# Altium schematic symbol library kmilo17pet-TI_BattMgmt.SchLib: 950 symbols (part 20 of 60)
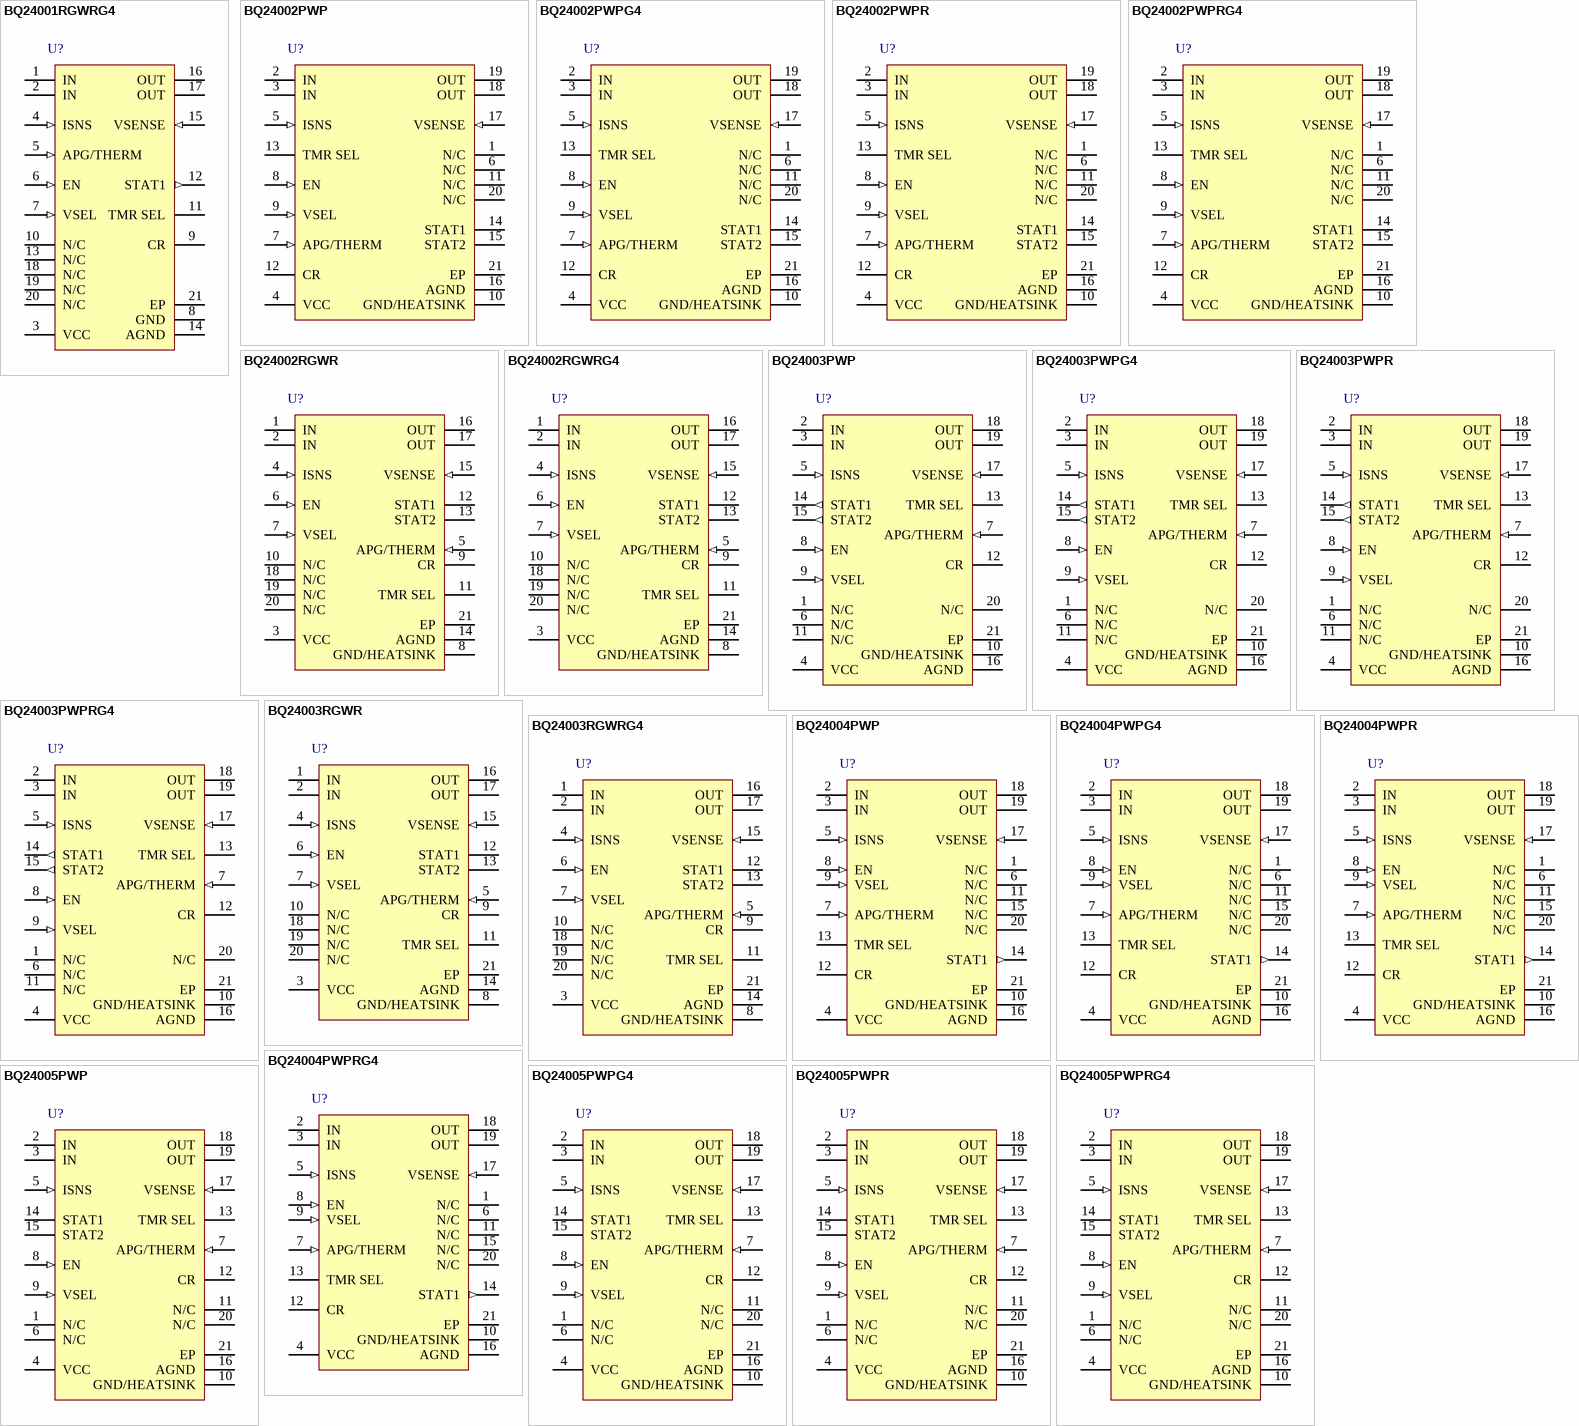
[diagram p53: symbols BQ24001RGWRG4 to BQ24005PWPRG4]

## BQ24004PWPR
designator U?
Linear 2-Cell Li-Ion Battery Charger with Integrated FET, One LED, 4.5 V, 0 to 70 degC, 20-pin HTSSOP (PWP), Green (RoHS & no Sb/Br); PartNumber: BQ24004PWPR; Manufacturer: Texas Instruments; Lead Acid: N; Li-Ion: Y; SubFamily: Battery Charge Management; Vin(Min)(V): 4.5; DatasheetVersion: SLUS476F; PackageVersion: revI, May-2011; PackageReference: PWP20-3005X2005TP; PackageDescription: 20-Pin PowerPAD Plastic Small Outline 6.5 x 4.4 mm Body ,0.65 mm Pitch, Exposed Pad; Supplier 1: Digi-Key; Supplier Part Number 1: BQ24004PWPR-ND; Supplier Part Number 3: 595-BQ24004PWPR; Eco-Plan: Green (RoHS & no Sb/Br); Li-Polymer: Y; NiCd: N; NiMH: N; Over Voltage Protection: N; Mounting Technology: Surface Mount; Code_JEDEC: MO-153; ComponentLink1Description: Datasheet; ComponentLink1URL: http://www.ti.com/general/docs/lit/getliterature.tsp?genericPartNumber=BQ24004&fileType=pdf
footprint PWP20-3005X2005TP_N (TSOP, 20-Leads, Body 6.5x4.4mm, Pitch 0.65mm, Thermal Pad 3.7x2.4 mm, IPC Medium Density)
footprint PWP20-3005X2005TP_L (TSOP, 20-Leads, Body 6.5x4.4mm, Pitch 0.65mm, Thermal Pad 3.7x2.4 mm, IPC High Density)
footprint PWP20-3005X2005TP_M (TSOP, 20-Leads, Body 6.5x4.4mm, Pitch 0.65mm, Thermal Pad 3.7x2.4 mm, IPC Low Density)
pins: 1 N/C "No connect. These pins must be left floating", 2 IN (power) "Input voltage. This input provides the charging voltage for the battery.", 3 IN (power) "Input voltage. This input provides the charging voltage for the battery.", 4 VCC (power) "Supply voltage", 5 ISNS (in) "Current sense input", 6 N/C "No connect. These pins must be left floating", 7 APG/THERM (in) "Adapter power good input/thermistor sense input", 8 EN (in) "Charge-enable input. Active-high enable input with internal pull down. Low-current stand-by mode active when EN is low.", 9 VSEL (in) "8.2-V or 8.4-V charge regulation selection input", 10 GND/HEATSINK (power) "Ground pin; connect to PowerPAD heat-sink layout pattern.", 11 N/C "No connect. These pins must be left floating", 12 CR "Internal regulator bypass capacitor", 13 TMR SEL "Charge timer selection input", 14 STAT1 (out) "Status display output 1", 15 N/C "No connect. These pins must be left floating", 16 AGND (power) "Ground pin; connect close to the negative battery terminal.", 17 VSENSE (in) "Battery voltage sense input", 18 OUT (power) "Charge current output", 19 OUT (power) "Charge current output", 20 N/C "No connect. These pins must be left floating", 21 EP (power) "Exposed Thermal Pad"

## BQ24004PWPRG4
designator U?
Linear 2-Cell Li-Ion Battery Charger with Integrated FET, One LED, 4.5 V, 0 to 70 degC, 20-pin HTSSOP (PWP), Green (RoHS & no Sb/Br); PartNumber: BQ24004PWPRG4; Manufacturer: Texas Instruments; Lead Acid: N; Li-Ion: Y; SubFamily: Battery Charge Management; Vin(Min)(V): 4.5; DatasheetVersion: SLUS476F; PackageVersion: revI, May-2011; PackageReference: PWP20-3005X2005TP; PackageDescription: 20-Pin PowerPAD Plastic Small Outline 6.5 x 4.4 mm Body ,0.65 mm Pitch, Exposed Pad; Supplier 1: Digi-Key; Supplier Part Number 1: BQ24004PWPRG4-ND; Supplier Part Number 3: 595-BQ24004PWPRG4; Eco-Plan: Green (RoHS & no Sb/Br); Li-Polymer: Y; NiCd: N; NiMH: N; Over Voltage Protection: N; Mounting Technology: Surface Mount; Code_JEDEC: MO-153; ComponentLink1Description: Datasheet; ComponentLink1URL: http://www.ti.com/general/docs/lit/getliterature.tsp?genericPartNumber=BQ24004&fileType=pdf
footprint PWP20-3005X2005TP_N (TSOP, 20-Leads, Body 6.5x4.4mm, Pitch 0.65mm, Thermal Pad 3.7x2.4 mm, IPC Medium Density)
footprint PWP20-3005X2005TP_L (TSOP, 20-Leads, Body 6.5x4.4mm, Pitch 0.65mm, Thermal Pad 3.7x2.4 mm, IPC High Density)
footprint PWP20-3005X2005TP_M (TSOP, 20-Leads, Body 6.5x4.4mm, Pitch 0.65mm, Thermal Pad 3.7x2.4 mm, IPC Low Density)
pins: 1 N/C "No connect. These pins must be left floating", 2 IN (power) "Input voltage. This input provides the charging voltage for the battery.", 3 IN (power) "Input voltage. This input provides the charging voltage for the battery.", 4 VCC (power) "Supply voltage", 5 ISNS (in) "Current sense input", 6 N/C "No connect. These pins must be left floating", 7 APG/THERM (in) "Adapter power good input/thermistor sense input", 8 EN (in) "Charge-enable input. Active-high enable input with internal pull down. Low-current stand-by mode active when EN is low.", 9 VSEL (in) "8.2-V or 8.4-V charge regulation selection input", 10 GND/HEATSINK (power) "Ground pin; connect to PowerPAD heat-sink layout pattern.", 11 N/C "No connect. These pins must be left floating", 12 CR "Internal regulator bypass capacitor", 13 TMR SEL "Charge timer selection input", 14 STAT1 (out) "Status display output 1", 15 N/C "No connect. These pins must be left floating", 16 AGND (power) "Ground pin; connect close to the negative battery terminal.", 17 VSENSE (in) "Battery voltage sense input", 18 OUT (power) "Charge current output", 19 OUT (power) "Charge current output", 20 N/C "No connect. These pins must be left floating", 21 EP (power) "Exposed Thermal Pad"

## BQ24005PWP
designator U?
Linear 2-Cell Li-Ion Battery Charger with Integrated FET, Two LED, 4.5 V, -20 to 70 degC, 20-pin HTSSOP (PWP), Green (RoHS & no Sb/Br); PartNumber: BQ24005PWP; Manufacturer: Texas Instruments; Lead Acid: N; Li-Ion: Y; SubFamily: Battery Charge Management; Vin(Min)(V): 4.5; DatasheetVersion: SLUS476F; PackageVersion: revI, May-2011; PackageReference: PWP20-3005X2005TP; PackageDescription: 20-Pin PowerPAD Plastic Small Outline 6.5 x 4.4 mm Body ,0.65 mm Pitch, Exposed Pad; Supplier 1: Digi-Key; Supplier Part Number 1: 296-9382-5-ND; Supplier Part Number 3: 74C7641; Eco-Plan: Green (RoHS & no Sb/Br); Li-Polymer: Y; NiCd: N; NiMH: N; Over Voltage Protection: N; Mounting Technology: Surface Mount; Code_JEDEC: MO-153; ComponentLink1Description: Datasheet; ComponentLink1URL: http://www.ti.com/general/docs/lit/getliterature.tsp?genericPartNumber=BQ24005&fileType=pdf
footprint PWP20-3005X2005TP_N (TSOP, 20-Leads, Body 6.5x4.4mm, Pitch 0.65mm, Thermal Pad 3.7x2.4 mm, IPC Medium Density)
footprint PWP20-3005X2005TP_L (TSOP, 20-Leads, Body 6.5x4.4mm, Pitch 0.65mm, Thermal Pad 3.7x2.4 mm, IPC High Density)
footprint PWP20-3005X2005TP_M (TSOP, 20-Leads, Body 6.5x4.4mm, Pitch 0.65mm, Thermal Pad 3.7x2.4 mm, IPC Low Density)
pins: 1 N/C "No connect. These pins must be left floating. Pin 15 is N/C on bq24004PWP only.", 2 IN (power) "Input voltage. This input provides the charging voltage for the battery.", 3 IN (power) "Input voltage. This input provides the charging voltage for the battery.", 4 VCC (power) "Supply voltage", 5 ISNS (in) "Current sense input", 6 N/C "No connect. These pins must be left floating. Pin 15 is N/C on bq24004PWP only.", 7 APG/THERM (in) "Adapter power good input/thermistor sense input", 8 EN (in) "Charge-enable input. Active-high enable input with internal pull down. Low-current stand-by mode active when EN is low.", 9 VSEL (in) "8.2-V or 8.4-V charge regulation selection input", 10 GND/HEATSINK (power) "Ground pin; connect to PowerPAD heat-sink layout pattern.", 11 N/C "No connect. These pins must be left floating. Pin 15 is N/C on bq24004PWP only.", 12 CR "Internal regulator bypass capacitor", 13 TMR SEL "Charge timer selection input", 14 STAT1 (oc) "Status display output 1", 15 STAT2 (oc) "Status display output 2", 16 AGND (power) "Ground pin; connect close to the negative battery terminal.", 17 VSENSE (in) "Battery voltage sense input", 18 OUT (power) "Charge current output", 19 OUT (power) "Charge current output", 20 N/C "No connect. These pins must be left floating. Pin 15 is N/C on bq24004PWP only.", 21 EP (power) "Exposed Thermal Pad"

## BQ24005PWPG4
designator U?
Linear 2-Cell Li-Ion Battery Charger with Integrated FET, Two LED, 4.5 V, -20 to 70 degC, 20-pin HTSSOP (PWP), Green (RoHS & no Sb/Br); PartNumber: BQ24005PWPG4; Manufacturer: Texas Instruments; Lead Acid: N; Li-Ion: Y; SubFamily: Battery Charge Management; Vin(Min)(V): 4.5; DatasheetVersion: SLUS476F; PackageVersion: revI, May-2011; PackageReference: PWP20-3005X2005TP; PackageDescription: 20-Pin PowerPAD Plastic Small Outline 6.5 x 4.4 mm Body ,0.65 mm Pitch, Exposed Pad; Supplier 1: Digi-Key; Supplier Part Number 1: BQ24005PWPG4-ND; Supplier Part Number 3: 595-BQ24005PWPG4; Eco-Plan: Green (RoHS & no Sb/Br); Li-Polymer: Y; NiCd: N; NiMH: N; Over Voltage Protection: N; Mounting Technology: Surface Mount; Code_JEDEC: MO-153; ComponentLink1Description: Datasheet; ComponentLink1URL: http://www.ti.com/general/docs/lit/getliterature.tsp?genericPartNumber=BQ24005&fileType=pdf
footprint PWP20-3005X2005TP_N (TSOP, 20-Leads, Body 6.5x4.4mm, Pitch 0.65mm, Thermal Pad 3.7x2.4 mm, IPC Medium Density)
footprint PWP20-3005X2005TP_L (TSOP, 20-Leads, Body 6.5x4.4mm, Pitch 0.65mm, Thermal Pad 3.7x2.4 mm, IPC High Density)
footprint PWP20-3005X2005TP_M (TSOP, 20-Leads, Body 6.5x4.4mm, Pitch 0.65mm, Thermal Pad 3.7x2.4 mm, IPC Low Density)
pins: 1 N/C "No connect. These pins must be left floating. Pin 15 is N/C on bq24004PWP only.", 2 IN (power) "Input voltage. This input provides the charging voltage for the battery.", 3 IN (power) "Input voltage. This input provides the charging voltage for the battery.", 4 VCC (power) "Supply voltage", 5 ISNS (in) "Current sense input", 6 N/C "No connect. These pins must be left floating. Pin 15 is N/C on bq24004PWP only.", 7 APG/THERM (in) "Adapter power good input/thermistor sense input", 8 EN (in) "Charge-enable input. Active-high enable input with internal pull down. Low-current stand-by mode active when EN is low.", 9 VSEL (in) "8.2-V or 8.4-V charge regulation selection input", 10 GND/HEATSINK (power) "Ground pin; connect to PowerPAD heat-sink layout pattern.", 11 N/C "No connect. These pins must be left floating. Pin 15 is N/C on bq24004PWP only.", 12 CR "Internal regulator bypass capacitor", 13 TMR SEL "Charge timer selection input", 14 STAT1 (oc) "Status display output 1", 15 STAT2 (oc) "Status display output 2", 16 AGND (power) "Ground pin; connect close to the negative battery terminal.", 17 VSENSE (in) "Battery voltage sense input", 18 OUT (power) "Charge current output", 19 OUT (power) "Charge current output", 20 N/C "No connect. These pins must be left floating. Pin 15 is N/C on bq24004PWP only.", 21 EP (power) "Exposed Thermal Pad"

## BQ24005PWPR
designator U?
Linear 2-Cell Li-Ion Battery Charger with Integrated FET, Two LED, 4.5 V, -20 to 70 degC, 20-pin HTSSOP (PWP), Green (RoHS & no Sb/Br); PartNumber: BQ24005PWPR; Manufacturer: Texas Instruments; Lead Acid: N; Li-Ion: Y; SubFamily: Battery Charge Management; Vin(Min)(V): 4.5; DatasheetVersion: SLUS476F; PackageVersion: revI, May-2011; PackageReference: PWP20-3005X2005TP; PackageDescription: 20-Pin PowerPAD Plastic Small Outline 6.5 x 4.4 mm Body ,0.65 mm Pitch, Exposed Pad; Supplier 1: Digi-Key; Supplier Part Number 1: 296-25921-2-ND; Supplier Part Number 3: 296-25921-6-ND; Eco-Plan: Green (RoHS & no Sb/Br); Li-Polymer: Y; NiCd: N; NiMH: N; Over Voltage Protection: N; Mounting Technology: Surface Mount; Code_JEDEC: MO-153; ComponentLink1Description: Datasheet; ComponentLink1URL: http://www.ti.com/general/docs/lit/getliterature.tsp?genericPartNumber=BQ24005&fileType=pdf
footprint PWP20-3005X2005TP_N (TSOP, 20-Leads, Body 6.5x4.4mm, Pitch 0.65mm, Thermal Pad 3.7x2.4 mm, IPC Medium Density)
footprint PWP20-3005X2005TP_L (TSOP, 20-Leads, Body 6.5x4.4mm, Pitch 0.65mm, Thermal Pad 3.7x2.4 mm, IPC High Density)
footprint PWP20-3005X2005TP_M (TSOP, 20-Leads, Body 6.5x4.4mm, Pitch 0.65mm, Thermal Pad 3.7x2.4 mm, IPC Low Density)
pins: 1 N/C "No connect. These pins must be left floating. Pin 15 is N/C on bq24004PWP only.", 2 IN (power) "Input voltage. This input provides the charging voltage for the battery.", 3 IN (power) "Input voltage. This input provides the charging voltage for the battery.", 4 VCC (power) "Supply voltage", 5 ISNS (in) "Current sense input", 6 N/C "No connect. These pins must be left floating. Pin 15 is N/C on bq24004PWP only.", 7 APG/THERM (in) "Adapter power good input/thermistor sense input", 8 EN (in) "Charge-enable input. Active-high enable input with internal pull down. Low-current stand-by mode active when EN is low.", 9 VSEL (in) "8.2-V or 8.4-V charge regulation selection input", 10 GND/HEATSINK (power) "Ground pin; connect to PowerPAD heat-sink layout pattern.", 11 N/C "No connect. These pins must be left floating. Pin 15 is N/C on bq24004PWP only.", 12 CR "Internal regulator bypass capacitor", 13 TMR SEL "Charge timer selection input", 14 STAT1 (oc) "Status display output 1", 15 STAT2 (oc) "Status display output 2", 16 AGND (power) "Ground pin; connect close to the negative battery terminal.", 17 VSENSE (in) "Battery voltage sense input", 18 OUT (power) "Charge current output", 19 OUT (power) "Charge current output", 20 N/C "No connect. These pins must be left floating. Pin 15 is N/C on bq24004PWP only.", 21 EP (power) "Exposed Thermal Pad"

## BQ24005PWPRG4
designator U?
Linear 2-Cell Li-Ion Battery Charger with Integrated FET, Two LED, 4.5 V, -20 to 70 degC, 20-pin HTSSOP (PWP), Green (RoHS & no Sb/Br); PartNumber: BQ24005PWPRG4; Manufacturer: Texas Instruments; Lead Acid: N; Li-Ion: Y; SubFamily: Battery Charge Management; Vin(Min)(V): 4.5; DatasheetVersion: SLUS476F; PackageVersion: revI, May-2011; PackageReference: PWP20-3005X2005TP; PackageDescription: 20-Pin PowerPAD Plastic Small Outline 6.5 x 4.4 mm Body ,0.65 mm Pitch, Exposed Pad; Supplier 1: Digi-Key; Supplier Part Number 1: BQ24005PWPRG4-ND; Supplier Part Number 3: 595-BQ24005PWPRG4; Eco-Plan: Green (RoHS & no Sb/Br); Li-Polymer: Y; NiCd: N; NiMH: N; Over Voltage Protection: N; Mounting Technology: Surface Mount; Code_JEDEC: MO-153; ComponentLink1Description: Datasheet; ComponentLink1URL: http://www.ti.com/general/docs/lit/getliterature.tsp?genericPartNumber=BQ24005&fileType=pdf
footprint PWP20-3005X2005TP_N (TSOP, 20-Leads, Body 6.5x4.4mm, Pitch 0.65mm, Thermal Pad 3.7x2.4 mm, IPC Medium Density)
footprint PWP20-3005X2005TP_L (TSOP, 20-Leads, Body 6.5x4.4mm, Pitch 0.65mm, Thermal Pad 3.7x2.4 mm, IPC High Density)
footprint PWP20-3005X2005TP_M (TSOP, 20-Leads, Body 6.5x4.4mm, Pitch 0.65mm, Thermal Pad 3.7x2.4 mm, IPC Low Density)
pins: 1 N/C "No connect. These pins must be left floating. Pin 15 is N/C on bq24004PWP only.", 2 IN (power) "Input voltage. This input provides the charging voltage for the battery.", 3 IN (power) "Input voltage. This input provides the charging voltage for the battery.", 4 VCC (power) "Supply voltage", 5 ISNS (in) "Current sense input", 6 N/C "No connect. These pins must be left floating. Pin 15 is N/C on bq24004PWP only.", 7 APG/THERM (in) "Adapter power good input/thermistor sense input", 8 EN (in) "Charge-enable input. Active-high enable input with internal pull down. Low-current stand-by mode active when EN is low.", 9 VSEL (in) "8.2-V or 8.4-V charge regulation selection input", 10 GND/HEATSINK (power) "Ground pin; connect to PowerPAD heat-sink layout pattern.", 11 N/C "No connect. These pins must be left floating. Pin 15 is N/C on bq24004PWP only.", 12 CR "Internal regulator bypass capacitor", 13 TMR SEL "Charge timer selection input", 14 STAT1 (oc) "Status display output 1", 15 STAT2 (oc) "Status display output 2", 16 AGND (power) "Ground pin; connect close to the negative battery terminal.", 17 VSENSE (in) "Battery voltage sense input", 18 OUT (power) "Charge current output", 19 OUT (power) "Charge current output", 20 N/C "No connect. These pins must be left floating. Pin 15 is N/C on bq24004PWP only.", 21 EP (power) "Exposed Thermal Pad"

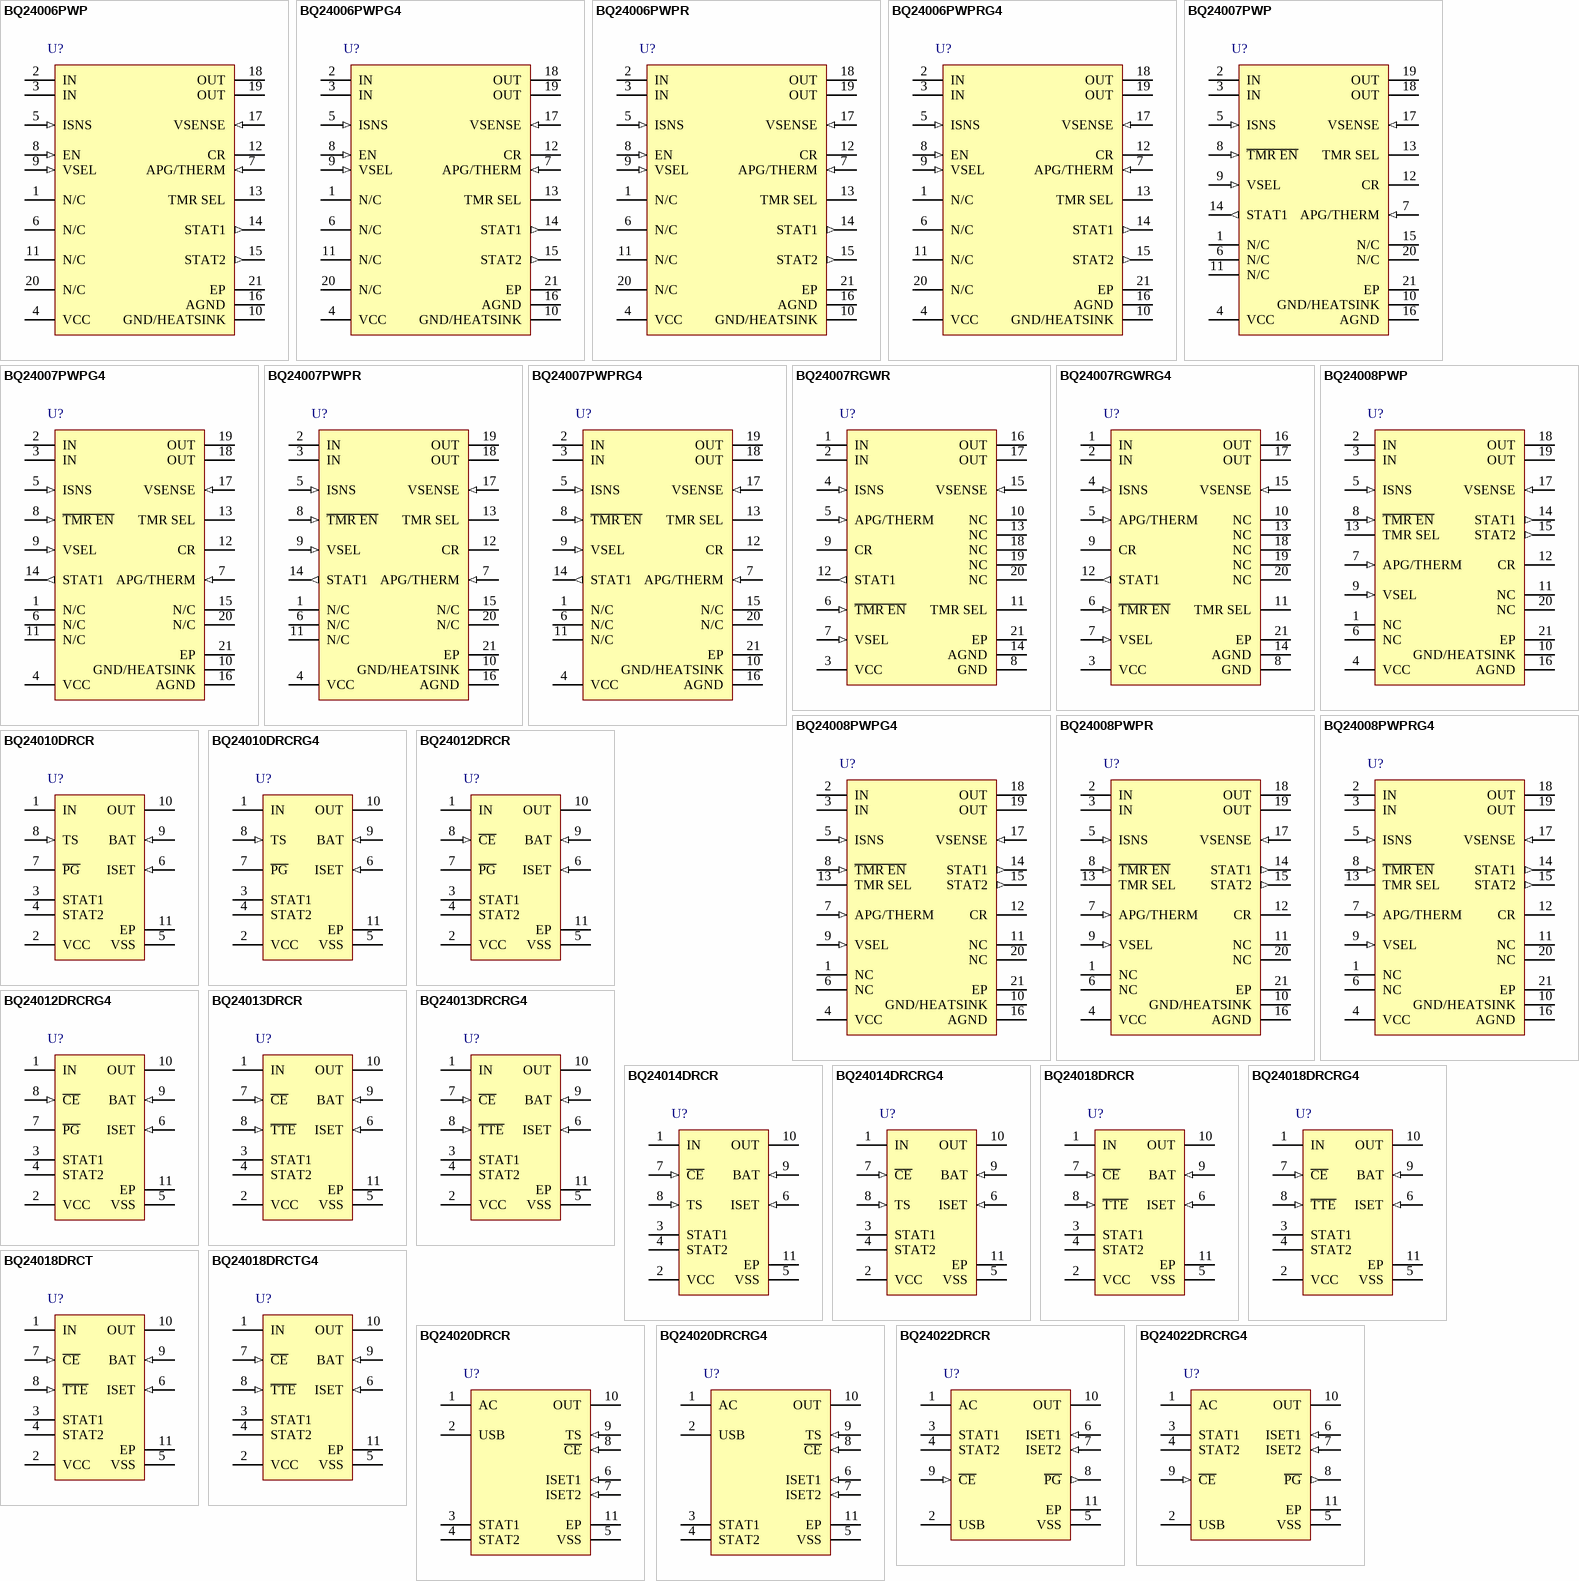
[diagram p12: symbols BQ24006PWP to BQ24022DRCRG4]

## BQ24006PWP
designator U?
Linear 2-Cell Li-Ion Battery Charger with Integrated FET, Bi-Color LED, 4.5 V, 0 to 70 degC, 20-pin HTSSOP (PWP), Green (RoHS & no Sb/Br); PartNumber: BQ24006PWP; Manufacturer: Texas Instruments; Lead Acid: N; Li-Ion: Y; SubFamily: Battery Charge Management; Vin(Min)(V): 4.5; DatasheetVersion: SLUS476F; PackageVersion: revI, May-2011; PackageReference: PWP20-3005X2005TP; PackageDescription: 20-Pin PowerPAD Plastic Small Outline 6.5 x 4.4 mm Body ,0.65 mm Pitch, Exposed Pad; Supplier 1: Digi-Key; Supplier Part Number 1: 296-9383-5-ND; Supplier Part Number 3: 595-BQ24006PWP; Eco-Plan: Green (RoHS & no Sb/Br); Li-Polymer: Y; NiCd: N; NiMH: N; Over Voltage Protection: N; Mounting Technology: Surface Mount; Code_JEDEC: MO-153; ComponentLink1Description: Datasheet; ComponentLink1URL: http://www.ti.com/general/docs/lit/getliterature.tsp?genericPartNumber=BQ24006&fileType=pdf
footprint PWP20-3005X2005TP_N (TSOP, 20-Leads, Body 6.5x4.4mm, Pitch 0.65mm, Thermal Pad 3.7x2.4 mm, IPC Medium Density)
footprint PWP20-3005X2005TP_L (TSOP, 20-Leads, Body 6.5x4.4mm, Pitch 0.65mm, Thermal Pad 3.7x2.4 mm, IPC High Density)
footprint PWP20-3005X2005TP_M (TSOP, 20-Leads, Body 6.5x4.4mm, Pitch 0.65mm, Thermal Pad 3.7x2.4 mm, IPC Low Density)
pins: 1 N/C "No connect. These pins must be left floating.", 2 IN (power) "Input voltage. This input provides the charging voltage for the battery.", 3 IN (power) "Input voltage. This input provides the charging voltage for the battery.", 4 VCC (power) "Supply voltage", 5 ISNS (in) "Current sense input", 6 N/C "No connect. These pins must be left floating.", 7 APG/THERM (in) "Adapter power good input/thermistor sense input", 8 EN (in) "Charge-enable input. Active-high enable input with internal pull down. Low-current stand-by mode active when EN is low.", 9 VSEL (in) "8.2-V or 8.4-V charge regulation selection input", 10 GND/HEATSINK (power) "Ground pin; connect to PowerPAD heat-sink layout pattern.", 11 N/C "No connect. These pins must be left floating.", 12 CR "Internal regulator bypass capacitor", 13 TMR SEL "Charge timer selection input", 14 STAT1 (out) "Status display output 1", 15 STAT2 (out) "Status display output 2", 16 AGND (power) "Ground pin; connect close to the negative battery terminal.", 17 VSENSE (in) "Battery voltage sense input", 18 OUT (power) "Charge current output", 19 OUT (power) "Charge current output", 20 N/C "No connect. These pins must be left floating.", 21 EP "Exposed Thermal Pad"

## BQ24006PWPG4
designator U?
Linear 2-Cell Li-Ion Battery Charger with Integrated FET, Bi-Color LED, 4.5 V, 0 to 70 degC, 20-pin HTSSOP (PWP), Green (RoHS & no Sb/Br); PartNumber: BQ24006PWPG4; Manufacturer: Texas Instruments; Lead Acid: N; Li-Ion: Y; SubFamily: Battery Charge Management; Vin(Min)(V): 4.5; DatasheetVersion: SLUS476F; PackageVersion: revI, May-2011; PackageReference: PWP20-3005X2005TP; PackageDescription: 20-Pin PowerPAD Plastic Small Outline 6.5 x 4.4 mm Body ,0.65 mm Pitch, Exposed Pad; Supplier 1: Digi-Key; Supplier Part Number 1: BQ24006PWPG4-ND; Supplier Part Number 3: 595-BQ24006PWPG4; Eco-Plan: Green (RoHS & no Sb/Br); Li-Polymer: Y; NiCd: N; NiMH: N; Over Voltage Protection: N; Mounting Technology: Surface Mount; Code_JEDEC: MO-153; ComponentLink1Description: Datasheet; ComponentLink1URL: http://www.ti.com/general/docs/lit/getliterature.tsp?genericPartNumber=BQ24006&fileType=pdf
footprint PWP20-3005X2005TP_N (TSOP, 20-Leads, Body 6.5x4.4mm, Pitch 0.65mm, Thermal Pad 3.7x2.4 mm, IPC Medium Density)
footprint PWP20-3005X2005TP_L (TSOP, 20-Leads, Body 6.5x4.4mm, Pitch 0.65mm, Thermal Pad 3.7x2.4 mm, IPC High Density)
footprint PWP20-3005X2005TP_M (TSOP, 20-Leads, Body 6.5x4.4mm, Pitch 0.65mm, Thermal Pad 3.7x2.4 mm, IPC Low Density)
pins: 1 N/C "No connect. These pins must be left floating.", 2 IN (power) "Input voltage. This input provides the charging voltage for the battery.", 3 IN (power) "Input voltage. This input provides the charging voltage for the battery.", 4 VCC (power) "Supply voltage", 5 ISNS (in) "Current sense input", 6 N/C "No connect. These pins must be left floating.", 7 APG/THERM (in) "Adapter power good input/thermistor sense input", 8 EN (in) "Charge-enable input. Active-high enable input with internal pull down. Low-current stand-by mode active when EN is low.", 9 VSEL (in) "8.2-V or 8.4-V charge regulation selection input", 10 GND/HEATSINK (power) "Ground pin; connect to PowerPAD heat-sink layout pattern.", 11 N/C "No connect. These pins must be left floating.", 12 CR "Internal regulator bypass capacitor", 13 TMR SEL "Charge timer selection input", 14 STAT1 (out) "Status display output 1", 15 STAT2 (out) "Status display output 2", 16 AGND (power) "Ground pin; connect close to the negative battery terminal.", 17 VSENSE (in) "Battery voltage sense input", 18 OUT (power) "Charge current output", 19 OUT (power) "Charge current output", 20 N/C "No connect. These pins must be left floating.", 21 EP "Exposed Thermal Pad"

## BQ24006PWPR
designator U?
Linear 2-Cell Li-Ion Battery Charger with Integrated FET, Bi-Color LED, 4.5 V, 0 to 70 degC, 20-pin HTSSOP (PWP), Green (RoHS & no Sb/Br); PartNumber: BQ24006PWPR; Manufacturer: Texas Instruments; Lead Acid: N; Li-Ion: Y; SubFamily: Battery Charge Management; Vin(Min)(V): 4.5; DatasheetVersion: SLUS476F; PackageVersion: revI, May-2011; PackageReference: PWP20-3005X2005TP; PackageDescription: 20-Pin PowerPAD Plastic Small Outline 6.5 x 4.4 mm Body ,0.65 mm Pitch, Exposed Pad; Supplier 1: Digi-Key; Supplier Part Number 1: BQ24006PWPR-ND; Supplier Part Number 3: 595-BQ24006PWPR; Eco-Plan: Green (RoHS & no Sb/Br); Li-Polymer: Y; NiCd: N; NiMH: N; Over Voltage Protection: N; Mounting Technology: Surface Mount; Code_JEDEC: MO-153; ComponentLink1Description: Datasheet; ComponentLink1URL: http://www.ti.com/general/docs/lit/getliterature.tsp?genericPartNumber=BQ24006&fileType=pdf
footprint PWP20-3005X2005TP_N (TSOP, 20-Leads, Body 6.5x4.4mm, Pitch 0.65mm, Thermal Pad 3.7x2.4 mm, IPC Medium Density)
footprint PWP20-3005X2005TP_L (TSOP, 20-Leads, Body 6.5x4.4mm, Pitch 0.65mm, Thermal Pad 3.7x2.4 mm, IPC High Density)
footprint PWP20-3005X2005TP_M (TSOP, 20-Leads, Body 6.5x4.4mm, Pitch 0.65mm, Thermal Pad 3.7x2.4 mm, IPC Low Density)
pins: 1 N/C "No connect. These pins must be left floating.", 2 IN (power) "Input voltage. This input provides the charging voltage for the battery.", 3 IN (power) "Input voltage. This input provides the charging voltage for the battery.", 4 VCC (power) "Supply voltage", 5 ISNS (in) "Current sense input", 6 N/C "No connect. These pins must be left floating.", 7 APG/THERM (in) "Adapter power good input/thermistor sense input", 8 EN (in) "Charge-enable input. Active-high enable input with internal pull down. Low-current stand-by mode active when EN is low.", 9 VSEL (in) "8.2-V or 8.4-V charge regulation selection input", 10 GND/HEATSINK (power) "Ground pin; connect to PowerPAD heat-sink layout pattern.", 11 N/C "No connect. These pins must be left floating.", 12 CR "Internal regulator bypass capacitor", 13 TMR SEL "Charge timer selection input", 14 STAT1 (out) "Status display output 1", 15 STAT2 (out) "Status display output 2", 16 AGND (power) "Ground pin; connect close to the negative battery terminal.", 17 VSENSE (in) "Battery voltage sense input", 18 OUT (power) "Charge current output", 19 OUT (power) "Charge current output", 20 N/C "No connect. These pins must be left floating.", 21 EP "Exposed Thermal Pad"

## BQ24006PWPRG4
designator U?
Linear 2-Cell Li-Ion Battery Charger with Integrated FET, Bi-Color LED, 4.5 V, 0 to 70 degC, 20-pin HTSSOP (PWP), Green (RoHS & no Sb/Br); PartNumber: BQ24006PWPRG4; Manufacturer: Texas Instruments; Lead Acid: N; Li-Ion: Y; SubFamily: Battery Charge Management; Vin(Min)(V): 4.5; DatasheetVersion: SLUS476F; PackageVersion: revI, May-2011; PackageReference: PWP20-3005X2005TP; PackageDescription: 20-Pin PowerPAD Plastic Small Outline 6.5 x 4.4 mm Body ,0.65 mm Pitch, Exposed Pad; Supplier 1: Digi-Key; Supplier Part Number 1: BQ24006PWPRG4-ND; Supplier Part Number 3: 595-BQ24006PWPRG4; Eco-Plan: Green (RoHS & no Sb/Br); Li-Polymer: Y; NiCd: N; NiMH: N; Over Voltage Protection: N; Mounting Technology: Surface Mount; Code_JEDEC: MO-153; ComponentLink1Description: Datasheet; ComponentLink1URL: http://www.ti.com/general/docs/lit/getliterature.tsp?genericPartNumber=BQ24006&fileType=pdf
footprint PWP20-3005X2005TP_N (TSOP, 20-Leads, Body 6.5x4.4mm, Pitch 0.65mm, Thermal Pad 3.7x2.4 mm, IPC Medium Density)
footprint PWP20-3005X2005TP_L (TSOP, 20-Leads, Body 6.5x4.4mm, Pitch 0.65mm, Thermal Pad 3.7x2.4 mm, IPC High Density)
footprint PWP20-3005X2005TP_M (TSOP, 20-Leads, Body 6.5x4.4mm, Pitch 0.65mm, Thermal Pad 3.7x2.4 mm, IPC Low Density)
pins: 1 N/C "No connect. These pins must be left floating.", 2 IN (power) "Input voltage. This input provides the charging voltage for the battery.", 3 IN (power) "Input voltage. This input provides the charging voltage for the battery.", 4 VCC (power) "Supply voltage", 5 ISNS (in) "Current sense input", 6 N/C "No connect. These pins must be left floating.", 7 APG/THERM (in) "Adapter power good input/thermistor sense input", 8 EN (in) "Charge-enable input. Active-high enable input with internal pull down. Low-current stand-by mode active when EN is low.", 9 VSEL (in) "8.2-V or 8.4-V charge regulation selection input", 10 GND/HEATSINK (power) "Ground pin; connect to PowerPAD heat-sink layout pattern.", 11 N/C "No connect. These pins must be left floating.", 12 CR "Internal regulator bypass capacitor", 13 TMR SEL "Charge timer selection input", 14 STAT1 (out) "Status display output 1", 15 STAT2 (out) "Status display output 2", 16 AGND (power) "Ground pin; connect close to the negative battery terminal.", 17 VSENSE (in) "Battery voltage sense input", 18 OUT (power) "Charge current output", 19 OUT (power) "Charge current output", 20 N/C "No connect. These pins must be left floating.", 21 EP "Exposed Thermal Pad"

## BQ24007PWP
designator U?
Linear 1-Cell Li-Ion Battery Charger with Integrated FET, One LED, 4.5 V, -20 to 70 degC, 20-pin HTSSOP (PWP), Green (RoHS & no Sb/Br); PartNumber: BQ24007PWP; Manufacturer: Texas Instruments; Lead Acid: N; Li-Ion: Y; SubFamily: Battery Charge Management; Vin(Min)(V): 4.5; DatasheetVersion: SLUS479D; PackageVersion: revI, May-2011; PackageReference: PWP20-3005X2005TP; PackageDescription: 20-Pin PowerPAD Plastic Small Outline 6.5 x 4.4 mm Body ,0.65 mm Pitch, Exposed Pad; Supplier 1: Digi-Key; Supplier Part Number 1: 296-9384-5-ND; Supplier Part Number 3: 595-BQ24007PWP; Eco-Plan: Green (RoHS & no Sb/Br); Li-Polymer: Y; NiCd: N; NiMH: N; Over Voltage Protection: N; Mounting Technology: Surface Mount; Code_JEDEC: MO-153; ComponentLink1Description: Datasheet; ComponentLink1URL: http://www.ti.com/general/docs/lit/getliterature.tsp?genericPartNumber=BQ24007&fileType=pdf
footprint PWP20-3005X2005TP_N (TSOP, 20-Leads, Body 6.5x4.4mm, Pitch 0.65mm, Thermal Pad 3.7x2.4 mm, IPC Medium Density)
footprint PWP20-3005X2005TP_L (TSOP, 20-Leads, Body 6.5x4.4mm, Pitch 0.65mm, Thermal Pad 3.7x2.4 mm, IPC High Density)
footprint PWP20-3005X2005TP_M (TSOP, 20-Leads, Body 6.5x4.4mm, Pitch 0.65mm, Thermal Pad 3.7x2.4 mm, IPC Low Density)
pins: 1 N/C "No connect. These pins must be left floating. Pin 15 is N/C on bq24007PWP only", 2 IN (power) "Input voltage. This input provides the charging voltage for the battery.", 3 IN (power) "Input voltage. This input provides the charging voltage for the battery.", 4 VCC (power) "Supply voltage", 5 ISNS (in) "Current sense input", 6 N/C "No connect. These pins must be left floating. Pin 15 is N/C on bq24007PWP only", 7 APG/THERM (in) "Adapter power good input/thermistor sense input", 8 ~{TMR EN} (in) "Charge-enable  input. Active-high enable input with internal pulldown. Low-current stand-by mode active when EN is low.", 9 VSEL (in) "4.1-V or 4.2-V charge regulation selection input", 10 GND/HEATSINK (power) "Ground pin; connect to PowerPAD heat-sink layout pattern.", 11 N/C "No connect. These pins must be left floating. Pin 15 is N/C on bq24007PWP only", 12 CR "Internal regulator bypass capacitor", 13 TMR SEL "Charge timer selection input", 14 STAT1 (out) "Status display output 1", 15 N/C "No connect. These pins must be left floating. Pin 15 is N/C on bq24007PWP only", 16 AGND (power) "Ground pin; connect close to the negative battery terminal.", 17 VSENSE (in) "Battery voltage sense input", 18 OUT (power) "Charge current output", 19 OUT (power) "Charge current output", 20 N/C "No connect. These pins must be left floating. Pin 15 is N/C on bq24007PWP only", 21 EP (power) "Exposed Pad"

## BQ24007PWPG4
designator U?
Linear 1-Cell Li-Ion Battery Charger with Integrated FET, One LED, 4.5 V, -20 to 70 degC, 20-pin HTSSOP (PWP), Green (RoHS & no Sb/Br); PartNumber: BQ24007PWPG4; Manufacturer: Texas Instruments; Lead Acid: N; Li-Ion: Y; SubFamily: Battery Charge Management; Vin(Min)(V): 4.5; DatasheetVersion: SLUS479D; PackageVersion: revI, May-2011; PackageReference: PWP20-3005X2005TP; PackageDescription: 20-Pin PowerPAD Plastic Small Outline 6.5 x 4.4 mm Body ,0.65 mm Pitch, Exposed Pad; Supplier 1: Digi-Key; Supplier Part Number 1: BQ24007PWPG4-ND; Supplier Part Number 3: 595-BQ24007PWPG4; Eco-Plan: Green (RoHS & no Sb/Br); Li-Polymer: Y; NiCd: N; NiMH: N; Over Voltage Protection: N; Mounting Technology: Surface Mount; Code_JEDEC: MO-153; ComponentLink1Description: Datasheet; ComponentLink1URL: http://www.ti.com/general/docs/lit/getliterature.tsp?genericPartNumber=BQ24007&fileType=pdf
footprint PWP20-3005X2005TP_N (TSOP, 20-Leads, Body 6.5x4.4mm, Pitch 0.65mm, Thermal Pad 3.7x2.4 mm, IPC Medium Density)
footprint PWP20-3005X2005TP_L (TSOP, 20-Leads, Body 6.5x4.4mm, Pitch 0.65mm, Thermal Pad 3.7x2.4 mm, IPC High Density)
footprint PWP20-3005X2005TP_M (TSOP, 20-Leads, Body 6.5x4.4mm, Pitch 0.65mm, Thermal Pad 3.7x2.4 mm, IPC Low Density)
pins: 1 N/C "No connect. These pins must be left floating. Pin 15 is N/C on bq24007PWP only", 2 IN (power) "Input voltage. This input provides the charging voltage for the battery.", 3 IN (power) "Input voltage. This input provides the charging voltage for the battery.", 4 VCC (power) "Supply voltage", 5 ISNS (in) "Current sense input", 6 N/C "No connect. These pins must be left floating. Pin 15 is N/C on bq24007PWP only", 7 APG/THERM (in) "Adapter power good input/thermistor sense input", 8 ~{TMR EN} (in) "Charge-enable  input. Active-high enable input with internal pulldown. Low-current stand-by mode active when EN is low.", 9 VSEL (in) "4.1-V or 4.2-V charge regulation selection input", 10 GND/HEATSINK (power) "Ground pin; connect to PowerPAD heat-sink layout pattern.", 11 N/C "No connect. These pins must be left floating. Pin 15 is N/C on bq24007PWP only", 12 CR "Internal regulator bypass capacitor", 13 TMR SEL "Charge timer selection input", 14 STAT1 (out) "Status display output 1", 15 N/C "No connect. These pins must be left floating. Pin 15 is N/C on bq24007PWP only", 16 AGND (power) "Ground pin; connect close to the negative battery terminal.", 17 VSENSE (in) "Battery voltage sense input", 18 OUT (power) "Charge current output", 19 OUT (power) "Charge current output", 20 N/C "No connect. These pins must be left floating. Pin 15 is N/C on bq24007PWP only", 21 EP (power) "Exposed Pad"

## BQ24007PWPR
designator U?
Linear 1-Cell Li-Ion Battery Charger with Integrated FET, One LED, 4.5 V, -20 to 70 degC, 20-pin HTSSOP (PWP), Green (RoHS & no Sb/Br); PartNumber: BQ24007PWPR; Manufacturer: Texas Instruments; Lead Acid: N; Li-Ion: Y; SubFamily: Battery Charge Management; Vin(Min)(V): 4.5; DatasheetVersion: SLUS479D; PackageVersion: revI, May-2011; PackageReference: PWP20-3005X2005TP; PackageDescription: 20-Pin PowerPAD Plastic Small Outline 6.5 x 4.4 mm Body ,0.65 mm Pitch, Exposed Pad; Supplier 1: Digi-Key; Supplier Part Number 1: BQ24007PWPR-ND; Supplier Part Number 3: 595-BQ24007PWPR; Eco-Plan: Green (RoHS & no Sb/Br); Li-Polymer: Y; NiCd: N; NiMH: N; Over Voltage Protection: N; Mounting Technology: Surface Mount; Code_JEDEC: MO-153; ComponentLink1Description: Datasheet; ComponentLink1URL: http://www.ti.com/general/docs/lit/getliterature.tsp?genericPartNumber=BQ24007&fileType=pdf
footprint PWP20-3005X2005TP_N (TSOP, 20-Leads, Body 6.5x4.4mm, Pitch 0.65mm, Thermal Pad 3.7x2.4 mm, IPC Medium Density)
footprint PWP20-3005X2005TP_L (TSOP, 20-Leads, Body 6.5x4.4mm, Pitch 0.65mm, Thermal Pad 3.7x2.4 mm, IPC High Density)
footprint PWP20-3005X2005TP_M (TSOP, 20-Leads, Body 6.5x4.4mm, Pitch 0.65mm, Thermal Pad 3.7x2.4 mm, IPC Low Density)
pins: 1 N/C "No connect. These pins must be left floating. Pin 15 is N/C on bq24007PWP only", 2 IN (power) "Input voltage. This input provides the charging voltage for the battery.", 3 IN (power) "Input voltage. This input provides the charging voltage for the battery.", 4 VCC (power) "Supply voltage", 5 ISNS (in) "Current sense input", 6 N/C "No connect. These pins must be left floating. Pin 15 is N/C on bq24007PWP only", 7 APG/THERM (in) "Adapter power good input/thermistor sense input", 8 ~{TMR EN} (in) "Charge-enable  input. Active-high enable input with internal pulldown. Low-current stand-by mode active when EN is low.", 9 VSEL (in) "4.1-V or 4.2-V charge regulation selection input", 10 GND/HEATSINK (power) "Ground pin; connect to PowerPAD heat-sink layout pattern.", 11 N/C "No connect. These pins must be left floating. Pin 15 is N/C on bq24007PWP only", 12 CR "Internal regulator bypass capacitor", 13 TMR SEL "Charge timer selection input", 14 STAT1 (out) "Status display output 1", 15 N/C "No connect. These pins must be left floating. Pin 15 is N/C on bq24007PWP only", 16 AGND (power) "Ground pin; connect close to the negative battery terminal.", 17 VSENSE (in) "Battery voltage sense input", 18 OUT (power) "Charge current output", 19 OUT (power) "Charge current output", 20 N/C "No connect. These pins must be left floating. Pin 15 is N/C on bq24007PWP only", 21 EP (power) "Exposed Pad"

## BQ24007PWPRG4
designator U?
Linear 1-Cell Li-Ion Battery Charger with Integrated FET, One LED, 4.5 V, -20 to 70 degC, 20-pin HTSSOP (PWP), Green (RoHS & no Sb/Br); PartNumber: BQ24007PWPRG4; Manufacturer: Texas Instruments; Lead Acid: N; Li-Ion: Y; SubFamily: Battery Charge Management; Vin(Min)(V): 4.5; DatasheetVersion: SLUS479D; PackageVersion: revI, May-2011; PackageReference: PWP20-3005X2005TP; PackageDescription: 20-Pin PowerPAD Plastic Small Outline 6.5 x 4.4 mm Body ,0.65 mm Pitch, Exposed Pad; Supplier 1: Digi-Key; Supplier Part Number 1: BQ24007PWPRG4-ND; Supplier Part Number 3: 595-BQ24007PWPRG4; Eco-Plan: Green (RoHS & no Sb/Br); Li-Polymer: Y; NiCd: N; NiMH: N; Over Voltage Protection: N; Mounting Technology: Surface Mount; Code_JEDEC: MO-153; ComponentLink1Description: Datasheet; ComponentLink1URL: http://www.ti.com/general/docs/lit/getliterature.tsp?genericPartNumber=BQ24007&fileType=pdf
footprint PWP20-3005X2005TP_N (TSOP, 20-Leads, Body 6.5x4.4mm, Pitch 0.65mm, Thermal Pad 3.7x2.4 mm, IPC Medium Density)
footprint PWP20-3005X2005TP_L (TSOP, 20-Leads, Body 6.5x4.4mm, Pitch 0.65mm, Thermal Pad 3.7x2.4 mm, IPC High Density)
footprint PWP20-3005X2005TP_M (TSOP, 20-Leads, Body 6.5x4.4mm, Pitch 0.65mm, Thermal Pad 3.7x2.4 mm, IPC Low Density)
pins: 1 N/C "No connect. These pins must be left floating. Pin 15 is N/C on bq24007PWP only", 2 IN (power) "Input voltage. This input provides the charging voltage for the battery.", 3 IN (power) "Input voltage. This input provides the charging voltage for the battery.", 4 VCC (power) "Supply voltage", 5 ISNS (in) "Current sense input", 6 N/C "No connect. These pins must be left floating. Pin 15 is N/C on bq24007PWP only", 7 APG/THERM (in) "Adapter power good input/thermistor sense input", 8 ~{TMR EN} (in) "Charge-enable  input. Active-high enable input with internal pulldown. Low-current stand-by mode active when EN is low.", 9 VSEL (in) "4.1-V or 4.2-V charge regulation selection input", 10 GND/HEATSINK (power) "Ground pin; connect to PowerPAD heat-sink layout pattern.", 11 N/C "No connect. These pins must be left floating. Pin 15 is N/C on bq24007PWP only", 12 CR "Internal regulator bypass capacitor", 13 TMR SEL "Charge timer selection input", 14 STAT1 (out) "Status display output 1", 15 N/C "No connect. These pins must be left floating. Pin 15 is N/C on bq24007PWP only", 16 AGND (power) "Ground pin; connect close to the negative battery terminal.", 17 VSENSE (in) "Battery voltage sense input", 18 OUT (power) "Charge current output", 19 OUT (power) "Charge current output", 20 N/C "No connect. These pins must be left floating. Pin 15 is N/C on bq24007PWP only", 21 EP (power) "Exposed Pad"

## BQ24007RGWR
designator U?
Linear 1-Cell Li-Ion Battery Charger with Integrated FET, One LED, 4.5 V, -40 to 70 degC, 20-pin VQFN (RGW), Green (RoHS & no Sb/Br); PartNumber: BQ24007RGWR; Manufacturer: Texas Instruments; Lead Acid: N; Li-Ion: Y; SubFamily: Battery Charge Management; Vin(Min)(V): 4.5; DatasheetVersion: SLUS479D; PackageVersion: revC, Jul-2011; PackageReference: RGW20-3150X3150TP; PackageDescription: 20-Pin Plastic Quad Flat No-Lead, 5 x 5 mm Body, 0.65 mm Pitch, 3.15 x 3.15 mm Exposed Pad; Supplier 1: Digi-Key; Supplier Part Number 1: 296-12971-2-ND; Supplier Part Number 3: 296-12971-6-ND; Eco-Plan: Green (RoHS & no Sb/Br); Li-Polymer: Y; NiCd: N; NiMH: N; Over Voltage Protection: N; Mounting Technology: Surface Mount; Code_JEDEC: MO-220; ComponentLink1Description: Datasheet; ComponentLink1URL: http://www.ti.com/general/docs/lit/getliterature.tsp?genericPartNumber=BQ24007&fileType=pdf
footprint RGW20-3150X3150TP (QFN, 20-Leads, Body 5x5mm, Pitch 0.65mm, Thermal Pad 3.15x3.15mm, TI Recommended)
pins: 1 IN (power) "Input voltage. This input provides the charging voltage for the battery.", 2 IN (power) "Input voltage. This input provides the charging voltage for the battery.", 3 VCC (power) "Supply voltage", 4 ISNS (in) "Current sense input", 5 APG/THERM (in) "Adapter power good input/thermistor sense input", 6 ~{TMR EN} (in) "Charge-enable  input. Active-high enable input with internal pulldown. Low-current stand-by mode active when EN is low.", 7 VSEL (in) "Adapter power good input/thermistor sense input", 8 GND (power) "Ground pin; connect to PowerPAD heat-sink layout pattern.", 9 CR "Internal regulator bypass capacitor", 10 NC "No connect. These pins must be left floating.", 11 TMR SEL "Charge timer selection input", 12 STAT1 (out) "Status display output 1", 13 NC "No connect. These pins must be left floating.Pin 13 is N/C on bq24007RGW only.", 14 AGND (power) "Ground pin; connect close to the negative battery terminal.", 15 VSENSE (in) "Battery voltage sense input", 16 OUT (power) "Charge current output", 17 OUT (power) "Charge current output", 18 NC "No connect. These pins must be left floating.", 19 NC "No connect. These pins must be left floating.", 20 NC "No connect. These pins must be left floating.", 21 EP (power) "Expose pad"

## BQ24007RGWRG4
designator U?
Linear 1-Cell Li-Ion Battery Charger with Integrated FET, One LED, 4.5 V, -40 to 70 degC, 20-pin VQFN (RGW), Green (RoHS & no Sb/Br); PartNumber: BQ24007RGWRG4; Manufacturer: Texas Instruments; Lead Acid: N; Li-Ion: Y; SubFamily: Battery Charge Management; Vin(Min)(V): 4.5; DatasheetVersion: SLUS479D; PackageVersion: revC, Jul-2011; PackageReference: RGW20-3150X3150TP; PackageDescription: 20-Pin Plastic Quad Flat No-Lead, 5 x 5 mm Body, 0.65 mm Pitch, 3.15 x 3.15 mm Exposed Pad; Supplier 1: Digi-Key; Supplier Part Number 1: BQ24007RGWRG4-ND; Supplier Part Number 3: 595-BQ24007RGWRG4; Eco-Plan: Green (RoHS & no Sb/Br); Li-Polymer: Y; NiCd: N; NiMH: N; Over Voltage Protection: N; Mounting Technology: Surface Mount; Code_JEDEC: MO-220; ComponentLink1Description: Datasheet; ComponentLink1URL: http://www.ti.com/general/docs/lit/getliterature.tsp?genericPartNumber=BQ24007&fileType=pdf
footprint RGW20-3150X3150TP (QFN, 20-Leads, Body 5x5mm, Pitch 0.65mm, Thermal Pad 3.15x3.15mm, TI Recommended)
pins: 1 IN (power) "Input voltage. This input provides the charging voltage for the battery.", 2 IN (power) "Input voltage. This input provides the charging voltage for the battery.", 3 VCC (power) "Supply voltage", 4 ISNS (in) "Current sense input", 5 APG/THERM (in) "Adapter power good input/thermistor sense input", 6 ~{TMR EN} (in) "Charge-enable  input. Active-high enable input with internal pulldown. Low-current stand-by mode active when EN is low.", 7 VSEL (in) "Adapter power good input/thermistor sense input", 8 GND (power) "Ground pin; connect to PowerPAD heat-sink layout pattern.", 9 CR "Internal regulator bypass capacitor", 10 NC "No connect. These pins must be left floating.", 11 TMR SEL "Charge timer selection input", 12 STAT1 (out) "Status display output 1", 13 NC "No connect. These pins must be left floating.Pin 13 is N/C on bq24007RGW only.", 14 AGND (power) "Ground pin; connect close to the negative battery terminal.", 15 VSENSE (in) "Battery voltage sense input", 16 OUT (power) "Charge current output", 17 OUT (power) "Charge current output", 18 NC "No connect. These pins must be left floating.", 19 NC "No connect. These pins must be left floating.", 20 NC "No connect. These pins must be left floating.", 21 EP (power) "Expose pad"

## BQ24008PWP
designator U?
Linear 1-Cell Li-Ion Battery Charger with Integrated FET, Bi-Color LED, 4.5 V, -20 to 70 degC, 20-pin HTSSOP (PWP), Green (RoHS & no Sb/Br); PartNumber: BQ24008PWP; Manufacturer: Texas Instruments; Lead Acid: N; Li-Ion: Y; SubFamily: Battery Charge Management; Vin(Min)(V): 4.5; DatasheetVersion: SLUS479D; PackageVersion: revI, May-2011; PackageReference: PWP20-3005X2005TP; PackageDescription: 20-Pin PowerPAD Plastic Small Outline 6.5 x 4.4 mm Body ,0.65 mm Pitch, Exposed Pad; Supplier 1: Digi-Key; Supplier Part Number 1: 296-9385-5-ND; Supplier Part Number 3: 595-BQ24008PWP; Eco-Plan: Green (RoHS & no Sb/Br); Li-Polymer: Y; NiCd: N; NiMH: N; Over Voltage Protection: N; Mounting Technology: Surface Mount; Code_JEDEC: MO-153; ComponentLink1Description: Datasheet; ComponentLink1URL: http://www.ti.com/general/docs/lit/getliterature.tsp?genericPartNumber=BQ24008&fileType=pdf
footprint PWP20-3005X2005TP_N (TSOP, 20-Leads, Body 6.5x4.4mm, Pitch 0.65mm, Thermal Pad 3.7x2.4 mm, IPC Medium Density)
footprint PWP20-3005X2005TP_L (TSOP, 20-Leads, Body 6.5x4.4mm, Pitch 0.65mm, Thermal Pad 3.7x2.4 mm, IPC High Density)
footprint PWP20-3005X2005TP_M (TSOP, 20-Leads, Body 6.5x4.4mm, Pitch 0.65mm, Thermal Pad 3.7x2.4 mm, IPC Low Density)
pins: 1 NC "No connect. These pins must be left floating.", 2 IN (power) "Input voltage. This input provides the charging voltage for the battery.", 3 IN (power) "Input voltage. This input provides the charging voltage for the battery.", 4 VCC (power) "Supply voltage.", 5 ISNS (in) "Current sense input.", 6 NC "No connect. These pins must be left floating.", 7 APG/THERM (in) "Adapter power good input/thermistor sense input.", 8 ~{TMR EN} (in) "Charge-enable  input. Active-high enable input with internal pulldown. Low-current stand-by mode active when EN is low.", 9 VSEL (in) "4.1-V or 4.2-V charge regulation selection input", 10 GND/HEATSINK (power) "Ground pin; connect to PowerPAD heat-sink layout pattern.", 11 NC "No connect. These pins must be left floating.", 12 CR "Internal regulator bypass capacitor.", 13 TMR SEL "Charge timer selection input", 14 STAT1 (out) "Status display output 1", 15 STAT2 (out) "Status display output 2 (for bq24008 only)", 16 AGND (power) "Ground pin; connect close to the negative battery terminal.", 17 VSENSE (in) "Battery voltage sense input.", 18 OUT (power) "Charge current output", 19 OUT (power) "Charge current output", 20 NC "No connect. These pins must be left floating.", 21 EP "Exposed thermal pad"

## BQ24008PWPG4
designator U?
Linear 1-Cell Li-Ion Battery Charger with Integrated FET, Bi-Color LED, 4.5 V, -20 to 70 degC, 20-pin HTSSOP (PWP), Green (RoHS & no Sb/Br); PartNumber: BQ24008PWPG4; Manufacturer: Texas Instruments; Lead Acid: N; Li-Ion: Y; SubFamily: Battery Charge Management; Vin(Min)(V): 4.5; DatasheetVersion: SLUS479D; PackageVersion: revI, May-2011; PackageReference: PWP20-3005X2005TP; PackageDescription: 20-Pin PowerPAD Plastic Small Outline 6.5 x 4.4 mm Body ,0.65 mm Pitch, Exposed Pad; Supplier 1: Digi-Key; Supplier Part Number 1: BQ24008PWPG4-ND; Supplier Part Number 3: 595-BQ24008PWPG4; Eco-Plan: Green (RoHS & no Sb/Br); Li-Polymer: Y; NiCd: N; NiMH: N; Over Voltage Protection: N; Mounting Technology: Surface Mount; Code_JEDEC: MO-153; ComponentLink1Description: Datasheet; ComponentLink1URL: http://www.ti.com/general/docs/lit/getliterature.tsp?genericPartNumber=BQ24008&fileType=pdf
footprint PWP20-3005X2005TP_N (TSOP, 20-Leads, Body 6.5x4.4mm, Pitch 0.65mm, Thermal Pad 3.7x2.4 mm, IPC Medium Density)
footprint PWP20-3005X2005TP_L (TSOP, 20-Leads, Body 6.5x4.4mm, Pitch 0.65mm, Thermal Pad 3.7x2.4 mm, IPC High Density)
footprint PWP20-3005X2005TP_M (TSOP, 20-Leads, Body 6.5x4.4mm, Pitch 0.65mm, Thermal Pad 3.7x2.4 mm, IPC Low Density)
pins: 1 NC "No connect. These pins must be left floating.", 2 IN (power) "Input voltage. This input provides the charging voltage for the battery.", 3 IN (power) "Input voltage. This input provides the charging voltage for the battery.", 4 VCC (power) "Supply voltage.", 5 ISNS (in) "Current sense input.", 6 NC "No connect. These pins must be left floating.", 7 APG/THERM (in) "Adapter power good input/thermistor sense input.", 8 ~{TMR EN} (in) "Charge-enable  input. Active-high enable input with internal pulldown. Low-current stand-by mode active when EN is low.", 9 VSEL (in) "4.1-V or 4.2-V charge regulation selection input", 10 GND/HEATSINK (power) "Ground pin; connect to PowerPAD heat-sink layout pattern.", 11 NC "No connect. These pins must be left floating.", 12 CR "Internal regulator bypass capacitor.", 13 TMR SEL "Charge timer selection input", 14 STAT1 (out) "Status display output 1", 15 STAT2 (out) "Status display output 2 (for bq24008 only)", 16 AGND (power) "Ground pin; connect close to the negative battery terminal.", 17 VSENSE (in) "Battery voltage sense input.", 18 OUT (power) "Charge current output", 19 OUT (power) "Charge current output", 20 NC "No connect. These pins must be left floating.", 21 EP "Exposed thermal pad"

## BQ24008PWPR
designator U?
Linear 1-Cell Li-Ion Battery Charger with Integrated FET, Bi-Color LED, 4.5 V, -20 to 70 degC, 20-pin HTSSOP (PWP), Green (RoHS & no Sb/Br); PartNumber: BQ24008PWPR; Manufacturer: Texas Instruments; Lead Acid: N; Li-Ion: Y; SubFamily: Battery Charge Management; Vin(Min)(V): 4.5; DatasheetVersion: SLUS479D; PackageVersion: revI, May-2011; PackageReference: PWP20-3005X2005TP; PackageDescription: 20-Pin PowerPAD Plastic Small Outline 6.5 x 4.4 mm Body ,0.65 mm Pitch, Exposed Pad; Supplier 1: Digi-Key; Supplier Part Number 1: BQ24008PWPR-ND; Supplier Part Number 3: 595-BQ24008PWPR; Eco-Plan: Green (RoHS & no Sb/Br); Li-Polymer: Y; NiCd: N; NiMH: N; Over Voltage Protection: N; Mounting Technology: Surface Mount; Code_JEDEC: MO-153; ComponentLink1Description: Datasheet; ComponentLink1URL: http://www.ti.com/general/docs/lit/getliterature.tsp?genericPartNumber=BQ24008&fileType=pdf
footprint PWP20-3005X2005TP_N (TSOP, 20-Leads, Body 6.5x4.4mm, Pitch 0.65mm, Thermal Pad 3.7x2.4 mm, IPC Medium Density)
footprint PWP20-3005X2005TP_L (TSOP, 20-Leads, Body 6.5x4.4mm, Pitch 0.65mm, Thermal Pad 3.7x2.4 mm, IPC High Density)
footprint PWP20-3005X2005TP_M (TSOP, 20-Leads, Body 6.5x4.4mm, Pitch 0.65mm, Thermal Pad 3.7x2.4 mm, IPC Low Density)
pins: 1 NC "No connect. These pins must be left floating.", 2 IN (power) "Input voltage. This input provides the charging voltage for the battery.", 3 IN (power) "Input voltage. This input provides the charging voltage for the battery.", 4 VCC (power) "Supply voltage.", 5 ISNS (in) "Current sense input.", 6 NC "No connect. These pins must be left floating.", 7 APG/THERM (in) "Adapter power good input/thermistor sense input.", 8 ~{TMR EN} (in) "Charge-enable  input. Active-high enable input with internal pulldown. Low-current stand-by mode active when EN is low.", 9 VSEL (in) "4.1-V or 4.2-V charge regulation selection input", 10 GND/HEATSINK (power) "Ground pin; connect to PowerPAD heat-sink layout pattern.", 11 NC "No connect. These pins must be left floating.", 12 CR "Internal regulator bypass capacitor.", 13 TMR SEL "Charge timer selection input", 14 STAT1 (out) "Status display output 1", 15 STAT2 (out) "Status display output 2 (for bq24008 only)", 16 AGND (power) "Ground pin; connect close to the negative battery terminal.", 17 VSENSE (in) "Battery voltage sense input.", 18 OUT (power) "Charge current output", 19 OUT (power) "Charge current output", 20 NC "No connect. These pins must be left floating.", 21 EP "Exposed thermal pad"